# Altium footprint library CW_PcbLib.PcbLib: 25 footprints (part 2 of 2)
Each footprint in its own frame and in the unit in brackets; x right, y up, seen from the top. Pads: shape width x height; smd on the part's side, far side on the other; paste and mask are expansions set on the pad; w line width, h text height; cw(c..) or ccw(c..) is an arc to the next point about the centre after c.
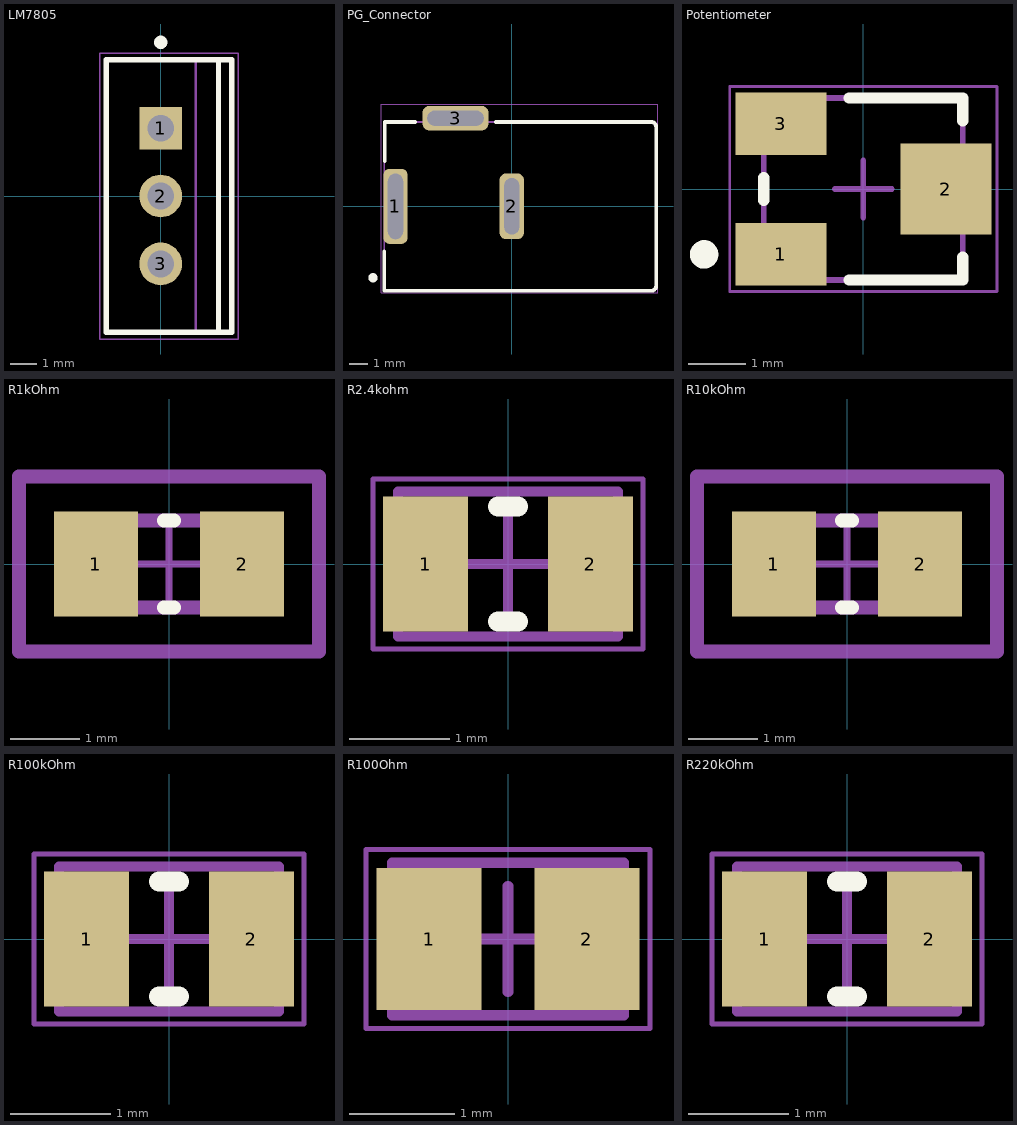
[diagram p1: the footprints below, top view; thin cyan lines are the x and y axes]

## LM7805 [mm]
pads (3):
  rect 1.6x1.6 hole 1: 1(0,2.54)
  round 1.6 hole 1: 2(0,0) 3(0,-2.54)
Top Overlay:
  circle w0.25: c0,5.75 r0.125
  lines w0.2: 2.16,-5.1 2.16,5.1 ; -2.04,-5.1 -2.04,5.1 2.66,5.1 2.66,-5.1 -2.04,-5.1
Mechanical 13:
  lines w0.1: 1.31,-5.1 1.31,5.1 ; -2.04,-5.1 2.66,-5.1 2.66,5.1 -2.04,5.1 -2.04,-5.1
Mechanical 15:
  lines w0.05: -2.29,-5.35 2.91,-5.35 2.91,5.35 -2.29,5.35 -2.29,-5.35
  lines w0.1: -0.5,0 0.5,0 ; 0,-0.5 0,0.5
3D body: height 18.95, standoff 17.95, extent 1.31,-4.95 2.66,4.95
3D body: height 16.51, standoff 16.15, extent 1.31,-4.95 2.66,-1.8
3D body: height 16.51, standoff 16.15, extent 1.31,1.8 2.66,4.95
3D body: height 16.15, standoff 15.8, extent 1.31,-4.95 2.66,-1.8
3D body: height 16.15, standoff 15.8, extent 1.31,1.8 2.66,4.95
3D body: height 16.84, standoff 16.5, extent 1.31,-4.95 2.66,-1.765
3D body: height 16.84, standoff 16.5, extent 1.31,1.765 2.66,4.95
3D body: height 15.8, standoff 15.46, extent 1.31,-4.95 2.66,-1.765
3D body: height 15.8, standoff 15.46, extent 1.31,1.765 2.66,4.95
3D body: height 17.16, standoff 16.84, extent 1.31,-4.95 2.66,-1.663
3D body: height 17.16, standoff 16.84, extent 1.31,1.663 2.66,4.95
3D body: height 15.47, standoff 15.15, extent 1.31,-4.95 2.66,-1.663
3D body: height 15.47, standoff 15.15, extent 1.31,1.663 2.66,4.95
3D body: height 17.43, standoff 17.15, extent 1.31,-4.95 2.66,-1.497
3D body: height 17.43, standoff 17.15, extent 1.31,1.497 2.66,4.95
3D body: height 15.15, standoff 14.88, extent 1.31,-4.95 2.66,-1.497
3D body: height 15.15, standoff 14.88, extent 1.31,1.497 2.66,4.95
3D body: height 17.65, standoff 17.42, extent 1.31,-4.95 2.66,-1.273
3D body: height 17.65, standoff 17.42, extent 1.31,1.273 2.66,4.95
3D body: height 14.88, standoff 14.65, extent 1.31,-4.95 2.66,-1.273
3D body: height 14.88, standoff 14.65, extent 1.31,1.273 2.66,4.95
3D body: height 17.82, standoff 17.65, extent 1.31,-4.95 2.66,-1
3D body: height 17.82, standoff 17.65, extent 1.31,1 2.66,4.95
3D body: height 14.66, standoff 14.49, extent 1.31,-4.95 2.66,-1
3D body: height 14.66, standoff 14.49, extent 1.31,1 2.66,4.95
3D body: height 17.92, standoff 17.81, extent 1.31,-4.95 2.66,-0.689
3D body: height 17.92, standoff 17.81, extent 1.31,0.689 2.66,4.95
3D body: height 14.49, standoff 14.38, extent 1.31,-4.95 2.66,-0.689
3D body: height 14.49, standoff 14.38, extent 1.31,0.689 2.66,4.95
3D body: height 17.95, standoff 17.92, extent 1.31,-4.95 2.66,-0.351
3D body: height 17.95, standoff 17.92, extent 1.31,0.351 2.66,4.95
3D body: height 14.39, standoff 14.35, extent 1.31,-4.95 2.66,-0.351
3D body: height 14.39, standoff 14.35, extent 1.31,0.351 2.66,4.95
3D body: height 14.35, standoff 12.2, extent 1.31,-4.95 2.66,4.95
3D body: height 12.2, standoff 3, extent -2.04,-5.1 2.66,5.1
3D body: height 0, standoff -1.6, extent -0.265,-2.94 0.265,-2.14
3D body: height 3, standoff 0, extent -0.265,-3.3 0.265,-1.78
3D body: height 0, standoff -1.6, extent -0.265,-0.4 0.265,0.4
3D body: height 3, standoff 0, extent -0.265,-0.76 0.265,0.76
3D body: height 0, standoff -1.6, extent -0.265,2.14 0.265,2.94
3D body: height 3, standoff 0, extent -0.265,1.78 0.265,3.3

## PG_Connector [mm]
pads (3):
  rrect50% 1.3x4 hole 0.8 slot 3.5 at 90 deg: 1(-6.2,0)
  rrect50% 1.3x3.5 hole 0.8 slot 3 at 90 deg: 2(0,0)
  rrect50% 3.5x1.3 hole 0.8 slot 3 at 0 deg: 3(-3,4.7)
Top Overlay:
  circle w0.25: c-7.4,-3.81 r0.125
  lines w0.2: -6.8,-4.5 -6.8,-2.4 ; -6.78,-4.5 7.45,-4.5 ccw(c7.45,-4.25) 7.7,-4.25 7.7,4.25 ccw(c7.45,4.25) 7.45,4.5 -0.85,4.5 ; -6.78,2.4 -6.78,4.5 -5.15,4.5
Mechanical 13:
  lines w0.1: -6.8,-4.5 7.45,-4.5 ccw(c7.45,-4.25) 7.7,-4.25 7.7,4.25 ccw(c7.45,4.25) 7.45,4.5 -6.8,4.5 -6.8,-4.5
Mechanical 15:
  lines w0.05: -6.95,-4.6 -6.95,5.45 7.8,5.45 7.8,-4.6 -6.95,-4.6
  lines w0.1: -0.5,0 0.5,0 ; 0,-0.5 0,0.5
3D body "KLDX-0202-A_rD2.STEP": height 10.8, standoff -4.1, extent -6.8,-4.5 7.7,4.9

## Potentiometer [mm]
pads (3):
  rect 1.6x1.1 smd paste+0: 1(-1.45,-1.15) 3(-1.45,1.15)
  rect 1.6x1.6 smd paste+0: 2(1.45,0)
Top Overlay:
  circle w0.25: c-2.8,-1.15 r0.125
  lines w0.2: -1.75,-0.2 -1.75,0.2 ; -0.25,-1.6 1.75,-1.6 1.75,-1.2 ; -0.25,1.6 1.75,1.6 1.75,1.2
Mechanical 13:
  lines w0.1: -1.75,-1.6 -1.75,1.6 1.75,1.6 1.75,-1.6 -1.75,-1.6
Mechanical 15:
  lines w0.05: -2.35,-1.8 2.35,-1.8 2.35,1.8 -2.35,1.8 -2.35,-1.8
  lines w0.1: -0.5,0 0.5,0 ; 0,-0.5 0,0.5
3D body "3313J-001.stp": height 2.11, standoff -0.03, extent -1.753,-1.651 1.753,1.651

## R1kOhm [mil]
pads (2):
  rect 47.5x59.38 smd paste+0 mask+0: 1(-41.37,0) 2(41.37,0)
Top Overlay:
  lines w7.87: -2.86,-24.61 2.86,-24.61 ; -2.86,24.61 2.86,24.61
Mechanical 5:
  lines w7.87: -84.81,-49.37 -84.81,49.37 84.81,49.37 84.81,-49.37 -84.81,-49.37
  text ".Designator" at 0,7.39 h39.37
Mechanical 13:
  lines w7.87: -39.37,-24.61 -39.37,24.61 39.37,24.61 39.37,-24.61 -39.37,-24.61
Mechanical 15:
  lines w7.87: -84.81,-49.37 -84.81,49.37 84.81,49.37 84.81,-49.37 -84.81,-49.37
Mechanical 16:
  lines w3.94: -19.68,0 19.68,0 ; 0,-19.68 0,19.68
3D body "Res_Vishay_CRCW0805100KFKEA_eec.STEP": height 10, standoff 0, extent -84.81,-49.37 84.81,49.37

## R2.4kohm [mm]
pads (2):
  rect 0.85x1.35 smd: 1(-0.825,0) 2(0.825,0)
Top Overlay:
  lines w0.2: -0.1,-0.575 0.1,-0.575 ; -0.1,0.575 0.1,0.575
Mechanical 13:
  lines w0.1: -1.1,-0.725 1.1,-0.725 1.1,0.725 -1.1,0.725 -1.1,-0.725
Mechanical 15:
  lines w0.05: -1.35,-0.85 1.35,-0.85 1.35,0.85 -1.35,0.85 -1.35,-0.85
  lines w0.1: -0.5,0 0.5,0 ; 0,-0.5 0,0.5
3D body: height 0.5, standoff 0, extent 0.8,-0.725 1.1,0.725
3D body: height 0.5, standoff 0, extent -1.1,-0.725 -0.8,0.725
3D body: height 0.5, standoff 0, extent -0.8,-0.725 0.8,0.725

## R10kOhm [mil]
pads (2):
  rect 47.5x59.38 smd paste+0 mask+0: 1(-41.37,0) 2(41.37,0)
Top Overlay:
  lines w7.87: -2.86,-24.61 2.86,-24.61 ; -2.86,24.61 2.86,24.61
Mechanical 5:
  lines w7.87: -84.81,-49.37 84.81,-49.37 84.81,49.37 -84.81,49.37 -84.81,-49.37
  text ".Designator" at 0,7.39 h39.37
Mechanical 13:
  lines w7.87: -39.37,-24.61 39.37,-24.61 39.37,24.61 -39.37,24.61 -39.37,-24.61
Mechanical 15:
  lines w7.87: -84.81,-49.37 84.81,-49.37 84.81,49.37 -84.81,49.37 -84.81,-49.37
Mechanical 16:
  lines w3.94: -19.68,0 19.68,0 ; 0,-19.68 0,19.68
3D body "Res_Vishay_CRCW0805100KFKEA_eec.STEP": height 10, standoff 0, extent -84.81,-49.37 84.81,49.37

## R100kOhm [mm]
pads (2):
  rect 0.85x1.35 smd: 1(-0.825,0) 2(0.825,0)
Top Overlay:
  lines w0.2: -0.1,-0.575 0.1,-0.575 ; -0.1,0.575 0.1,0.575
Mechanical 13:
  lines w0.1: -1.1,-0.725 -1.1,0.725 1.1,0.725 1.1,-0.725 -1.1,-0.725
Mechanical 15:
  lines w0.05: -1.35,-0.85 -1.35,0.85 1.35,0.85 1.35,-0.85 -1.35,-0.85
  lines w0.1: -0.5,0 0.5,0 ; 0,-0.5 0,0.5
3D body: height 0.5, standoff 0, extent -0.8,-0.725 0.8,0.725
3D body: height 0.5, standoff 0, extent -1.1,-0.725 -0.8,0.725
3D body: height 0.5, standoff 0, extent 0.8,-0.725 1.1,0.725

## R100Ohm [mm]
pads (2):
  rect 1x1.35 smd: 1(-0.75,0) 2(0.75,0)
Mechanical 13:
  lines w0.1: -1.1,-0.725 -1.1,0.725 1.1,0.725 1.1,-0.725 -1.1,-0.725
Mechanical 15:
  lines w0.05: -1.35,-0.85 -1.35,0.85 1.35,0.85 1.35,-0.85 -1.35,-0.85
  lines w0.1: -0.5,0 0.5,0 ; 0,-0.5 0,0.5
3D body: height 0.6, standoff 0, extent -0.7,-0.725 0.7,0.725
3D body: height 0.6, standoff 0, extent -1.1,-0.725 -0.7,0.725
3D body: height 0.6, standoff 0, extent 0.7,-0.725 1.1,0.725

## R220kOhm [mm]
pads (2):
  rect 0.85x1.35 smd: 1(-0.825,0) 2(0.825,0)
Top Overlay:
  lines w0.2: -0.1,-0.575 0.1,-0.575 ; -0.1,0.575 0.1,0.575
Mechanical 13:
  lines w0.1: -1.1,-0.725 1.1,-0.725 1.1,0.725 -1.1,0.725 -1.1,-0.725
Mechanical 15:
  lines w0.05: -1.35,-0.85 1.35,-0.85 1.35,0.85 -1.35,0.85 -1.35,-0.85
  lines w0.1: -0.5,0 0.5,0 ; 0,-0.5 0,0.5
3D body: height 0.5, standoff 0, extent 0.8,-0.725 1.1,0.725
3D body: height 0.5, standoff 0, extent -1.1,-0.725 -0.8,0.725
3D body: height 0.5, standoff 0, extent -0.8,-0.725 0.8,0.725